# Altium footprint library Linear Technology PMIC-Switching Reg LT1074-LT8705.PcbLib: 146 footprints (part 10 of 10)
Each footprint in its own frame and in the unit in brackets; x right, y up, seen from the top. Pads: shape width x height; smd on the part's side, far side on the other; paste and mask are expansions set on the pad; w line width, h text height; cw(c..) or ccw(c..) is an arc to the next point about the centre after c.
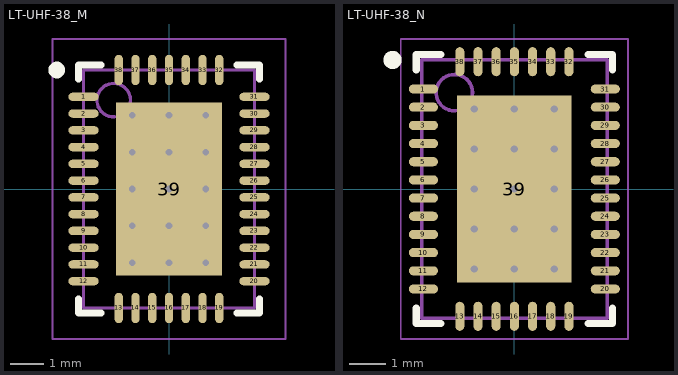
[diagram p9: the footprints below, top view; thin cyan lines are the x and y axes]

## LT-UHF-38_M [mm] "QFN, 38-Leads, Body 7.1x5.1mm, Pitch 0.5mm, Thermal Pad 3.15x5.15mm, IPC Low Density"
height 0.8
pads (39):
  oval 0.9x0.25 smd: 1(-2.55,2.75) 2(-2.55,2.25) 3(-2.55,1.75) 4(-2.55,1.25) 5(-2.55,0.75) 6(-2.55,0.25) 7(-2.55,-0.25) 8(-2.55,-0.75) 9(-2.55,-1.25) 10(-2.55,-1.75) 11(-2.55,-2.25) 12(-2.55,-2.75) 20(2.55,-2.75) 21(2.55,-2.25) 22(2.55,-1.75) 23(2.55,-1.25) 24(2.55,-0.75) 25(2.55,-0.25) 26(2.55,0.25) 27(2.55,0.75) 28(2.55,1.25) 29(2.55,1.75) 30(2.55,2.25) 31(2.55,2.75)
  oval 0.25x0.9 smd: 13(-1.5,-3.55) 14(-1,-3.55) 15(-0.5,-3.55) 16(0,-3.55) 17(0.5,-3.55) 18(1,-3.55) 19(1.5,-3.55) 32(1.5,3.55) 33(1,3.55) 34(0.5,3.55) 35(0,3.55) 36(-0.5,3.55) 37(-1,3.55) 38(-1.5,3.55)
  rect 3.15x5.15 smd: 39(0,0)
via -1.1,2.2 diameter 0.5 hole 0.2
via 0,2.2 diameter 0.5 hole 0.2
via 1.1,2.2 diameter 0.5 hole 0.2
via -1.1,1.1 diameter 0.5 hole 0.2
via 0,1.1 diameter 0.5 hole 0.2
via 1.1,1.1 diameter 0.5 hole 0.2
via -1.1,0 diameter 0.5 hole 0.2
via 0,0 diameter 0.5 hole 0.2
via 1.1,0 diameter 0.5 hole 0.2
via -1.1,-1.1 diameter 0.5 hole 0.2
via 0,-1.1 diameter 0.5 hole 0.2
via 1.1,-1.1 diameter 0.5 hole 0.2
via -1.1,-2.2 diameter 0.5 hole 0.2
via 0,-2.2 diameter 0.5 hole 0.2
via 1.1,-2.2 diameter 0.5 hole 0.2
Top Overlay:
  circle w0.25: c-3.35,3.55 r0.125
  lines w0.2: -2.7,-3.275 -2.7,-3.7 -2.025,-3.7 ; -2.7,3.275 -2.7,3.7 -2.025,3.7 ; 2.025,-3.7 2.7,-3.7 2.7,-3.275 ; 2.025,3.7 2.7,3.7 2.7,3.275
Mechanical 13:
  circle w0.1: c-1.65,2.65 r0.5
  lines w0.1: -2.55,-3.55 -2.55,3.55 2.55,3.55 2.55,-3.55 -2.55,-3.55
Mechanical 15:
  lines w0.05: -3.475,-4.475 -3.475,4.475 3.475,4.475 3.475,-4.475 -3.475,-4.475
  lines w0.1: -0.5,0 0.5,0 ; 0,-0.5 0,0.5
3D body: height 0.8, standoff 0, extent -2.55,-3.55 2.55,3.55

## LT-UHF-38_N [mm] "QFN, 38-Leads, Body 7.1x5.1mm, Pitch 0.5mm, Thermal Pad 3.15x5.15mm, IPC Medium Density"
height 0.8
pads (39):
  oval 0.8x0.25 smd: 1(-2.5,2.75) 2(-2.5,2.25) 3(-2.5,1.75) 4(-2.5,1.25) 5(-2.5,0.75) 6(-2.5,0.25) 7(-2.5,-0.25) 8(-2.5,-0.75) 9(-2.5,-1.25) 10(-2.5,-1.75) 11(-2.5,-2.25) 12(-2.5,-2.75) 20(2.5,-2.75) 21(2.5,-2.25) 22(2.5,-1.75) 23(2.5,-1.25) 24(2.5,-0.75) 25(2.5,-0.25) 26(2.5,0.25) 27(2.5,0.75) 28(2.5,1.25) 29(2.5,1.75) 30(2.5,2.25) 31(2.5,2.75)
  oval 0.25x0.8 smd: 13(-1.5,-3.5) 14(-1,-3.5) 15(-0.5,-3.5) 16(0,-3.5) 17(0.5,-3.5) 18(1,-3.5) 19(1.5,-3.5) 32(1.5,3.5) 33(1,3.5) 34(0.5,3.5) 35(0,3.5) 36(-0.5,3.5) 37(-1,3.5) 38(-1.5,3.5)
  rect 3.15x5.15 smd: 39(0,0)
via 1.1,-2.2 diameter 0.5 hole 0.2
via 0,-2.2 diameter 0.5 hole 0.2
via -1.1,-2.2 diameter 0.5 hole 0.2
via 1.1,-1.1 diameter 0.5 hole 0.2
via 0,-1.1 diameter 0.5 hole 0.2
via -1.1,-1.1 diameter 0.5 hole 0.2
via 1.1,0 diameter 0.5 hole 0.2
via 0,0 diameter 0.5 hole 0.2
via -1.1,0 diameter 0.5 hole 0.2
via 1.1,1.1 diameter 0.5 hole 0.2
via 0,1.1 diameter 0.5 hole 0.2
via -1.1,1.1 diameter 0.5 hole 0.2
via 1.1,2.2 diameter 0.5 hole 0.2
via 0,2.2 diameter 0.5 hole 0.2
via -1.1,2.2 diameter 0.5 hole 0.2
Top Overlay:
  circle w0.25: c-3.35,3.55 r0.125
  lines w0.2: -2.7,-3.275 -2.7,-3.7 -2.025,-3.7 ; -2.7,3.275 -2.7,3.7 -2.025,3.7 ; 2.025,-3.7 2.7,-3.7 2.7,-3.275 ; 2.025,3.7 2.7,3.7 2.7,3.275
Mechanical 13:
  circle w0.1: c-1.65,2.65 r0.5
  lines w0.1: -2.55,-3.55 2.55,-3.55 2.55,3.55 -2.55,3.55 -2.55,-3.55
Mechanical 15:
  lines w0.05: -3.125,-4.125 3.125,-4.125 3.125,4.125 -3.125,4.125 -3.125,-4.125
  lines w0.1: -0.5,0 0.5,0 ; 0,-0.5 0,0.5
3D body: height 0.8, standoff 0, extent -2.55,-3.55 2.55,3.55